# EAGLE library part ICL710*CPL+ (library IC_Data-Conversion)
3 1⁄2 Digit A/D Converters Datasheet <https://datasheets.maximintegrated.com/en/ds/ICL7106-ICL7107.pdf>
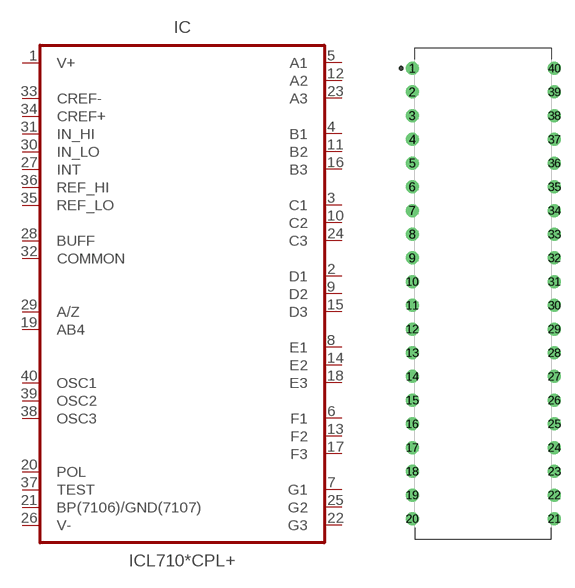
[diagram p8: symbol with the pads of DIP1524W51P254L5207H508Q40B; footprint DIP1524W51P254L5207H508Q40B]

Designator prefix IC

## ICL7106CPL+ (CATEGORY: IC_Data-Conversion; DESCRIPTION: 31⁄2 Digit A/D Converters; MANUFACTURER: Maxim Integrated; MPN: ICL7106CPL+; OPERATING_TEMP: 0°C to +70°C; PART_STATUS: Active; ROHS_COMPLIANT: COMPLIANT; SERIES: ICL7106; SUB-CATEGORY: ADC; VALUE: ICL7106), ICL7107CPL+ (CATEGORY: IC_Data-Conversion; DESCRIPTION: 31⁄2 Digit A/D Converters; MANUFACTURER: Maxim Integrated; MPN: ICL7107CPL+; OPERATING_TEMP: 0°C to +70°C; PART_STATUS: Active; ROHS_COMPLIANT: COMPLIANT; SERIES: ICL7107; SUB-CATEGORY: ADC; VALUE: ICL7106)  [DIP1524W51P254L5207H508Q40B]
1  V+  pwr
2  D1
3  C1
4  B1
5  A1
6  F1
7  G1
8  E1
9  D2
10  C2
11  B2
12  A2
13  F2
14  E2
15  D3
16  B3
17  F3
18  E3
19  AB4
20  POL
21  BP(7106)/GND(7107)  pwr
22  G3
23  A3
24  C3
25  G2
26  V-  pwr
27  INT  in
28  BUFF
29  A/Z
30  IN_LO  in
31  IN_HI  in
32  COMMON
33  CREF-  in
34  CREF+  in
35  REF_LO  in
36  REF_HI  in
37  TEST
38  OSC3  in
39  OSC2  in
40  OSC1  in

## Footprint DIP1524W51P254L5207H508Q40B (pad centres in mm)
40-DIP, 2.54 mm (0.10 in) pitch, 15.24 mm (0.60 in) span, 52.08 X 13.97 X 5.08 mm body 40-pin DIP package with 2.54 mm (0.10 in) pitch, 15.24 mm (0.60 in) span with body size 52.08 X 13.97 X 5.08 mm
drill 0.792 pad 1.392: 1 -7.62,24.13; 2 -7.62,21.59; 3 -7.62,19.05; 4 -7.62,16.51; 5 -7.62,13.97; 6 -7.62,11.43; 7 -7.62,8.89; 8 -7.62,6.35; 9 -7.62,3.81; 10 -7.62,1.27; 11 -7.62,-1.27; 12 -7.62,-3.81; 13 -7.62,-6.35; 14 -7.62,-8.89; 15 -7.62,-11.43; 16 -7.62,-13.97; 17 -7.62,-16.51; 18 -7.62,-19.05; 19 -7.62,-21.59; 20 -7.62,-24.13; 21 7.62,-24.13; 22 7.62,-21.59; 23 7.62,-19.05; 24 7.62,-16.51; 25 7.62,-13.97; 26 7.62,-11.43; 27 7.62,-8.89; 28 7.62,-6.35; 29 7.62,-3.81; 30 7.62,-1.27; 31 7.62,1.27; 32 7.62,3.81; 33 7.62,6.35; 34 7.62,8.89; 35 7.62,11.43; 36 7.62,13.97; 37 7.62,16.51; 38 7.62,19.05; 39 7.62,21.59; 40 7.62,24.13